# EAGLE library part OPA1612AIDRGR (library OPA1612AIDRGR)
SoundPlus Audio Operational Amplifier with 1.1nV/Hz Noise, Low THD and Precision Source: Datasheet <http://www.ti.com/lit/ds/symlink/opa1612.pdf>
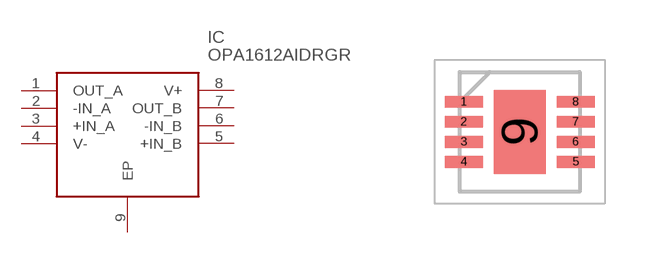
[diagram p0: symbol with the pads of SON50P300X300X80-9N; footprint SON50P300X300X80-9N]

Designator prefix IC

## OPA1612AIDRGR (Arrow_Part_Number: OPA1612AIDRGR; Arrow_Price-Stock: https://www.arrow.com/en/products/opa1612aidrgr/texas-instruments?utm_currency=USD&region=nac; Description: SoundPlus Audio Operational Amplifier with 1.1nV/Hz Noise, Low THD and Precision; Height: 0.8mm; Manufacturer_Name: Texas Instruments; Manufacturer_Part_Number: OPA1612AIDRGR; Mouser_Part_Number: 595-OPA1612AIDRGR; Mouser_Price-Stock: https://www.mouser.co.uk/ProductDetail/Texas-Instruments/OPA1612AIDRGR?qs=m1T3c8F5IUKK0sm07a9upg%3D%3D)  [SON50P300X300X80-9N]
1  OUT_A
2  -IN_A
3  +IN_A
4  V-
5  +IN_B
6  -IN_B
7  OUT_B
8  V+
9  EP

## Footprint SON50P300X300X80-9N (pad centres in mm)
DRG (S-PWSON-N8)
smd 0.95 x 0.3: 1 -1.4,0.75; 2 -1.4,0.25; 3 -1.4,-0.25; 4 -1.4,-0.75; 5 1.4,-0.75; 6 1.4,-0.25; 7 1.4,0.25; 8 1.4,0.75
smd 1.3 x 2.1: 9 0,0